# EAGLE library part 1-776087-4 (library te_connectivity)
TE Connectivity AMPSEAL 23 POS AMPSEAL HDR SNAP IN W/GASKET
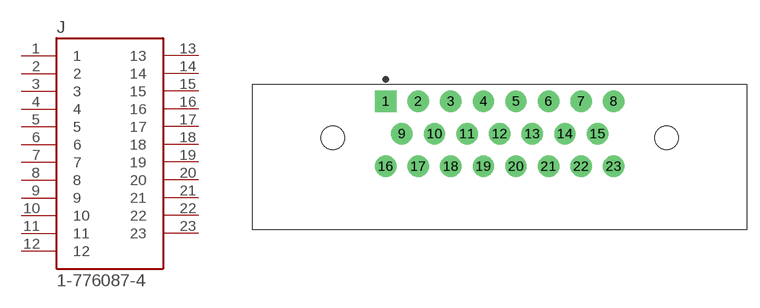
[diagram p2: symbol with the pads of TE_1-776087-4; footprint TE_1-776087-4]

Designator prefix J

## 1-776087-4 (COMPLIANCE: Lead free/RoHS compliant; CURRENT_RATING: Varies by Wire gauge; DATASHEET: http://www.te.com/commerce/DocumentDelivery/DDEController?Action=srchrtrv&DocNm=776087&DocType=Customer+Drawing&DocLang=English; FOOTPRINT: TE_1-776087-4; LATEST_REV_DATE: 09, March 2016; LIBRARY_REF: 1-776087-4.lbr; MANUFACTURER: TE Connectivity; PACKAGE: Panel Mount, Through Hole, Right angled; PARTREV: E11; PART_DESCRIPTION: CONN HEADER RT ANG 23POS PCB AU; PITCH: 4mm; POS: 23; PUBLISHER: SnapEDA; SERIES: 1-776087-X; STANDARD: Manufacturer recommendations; TE_PN: 1-776087-4; VOLTAGE_RATING: 250VAC)  [TE_1-776087-4]
1  1  pas
2  2  pas
3  3  pas
4  4  pas
5  5  pas
6  6  pas
7  7  pas
8  8  pas
9  9  pas
10  10  pas
11  11  pas
12  12  pas
13  13  pas
14  14  pas
15  15  pas
16  16  pas
17  17  pas
18  18  pas
19  19  pas
20  20  pas
21  21  pas
22  22  pas
23  23  pas

## Footprint TE_1-776087-4 (pad centres in mm)
drill 1.75 square: 1 0,0
drill 1.75: 2 4,0; 3 8,0; 4 12,0; 5 16,0; 6 20,0; 7 24,0; 8 28,0; 9 2,-4; 10 6,-4; 11 10,-4; 12 14,-4; 13 18,-4; 14 22,-4; 15 26,-4; 16 0,-8; 17 4,-8; 18 8,-8; 19 12,-8; 20 16,-8; 21 20,-8; 22 24,-8; 23 28,-8
hole 2.85 at -6.5,-4.5
hole 2.85 at 34.5,-4.5